# Altium footprint library BSS138.PcbLib: 1 footprints
Each footprint in its own frame and in the unit in brackets; x right, y up, seen from the top. Pads: shape width x height; smd on the part's side, far side on the other; paste and mask are expansions set on the pad; w line width, h text height; cw(c..) or ccw(c..) is an arc to the next point about the centre after c.
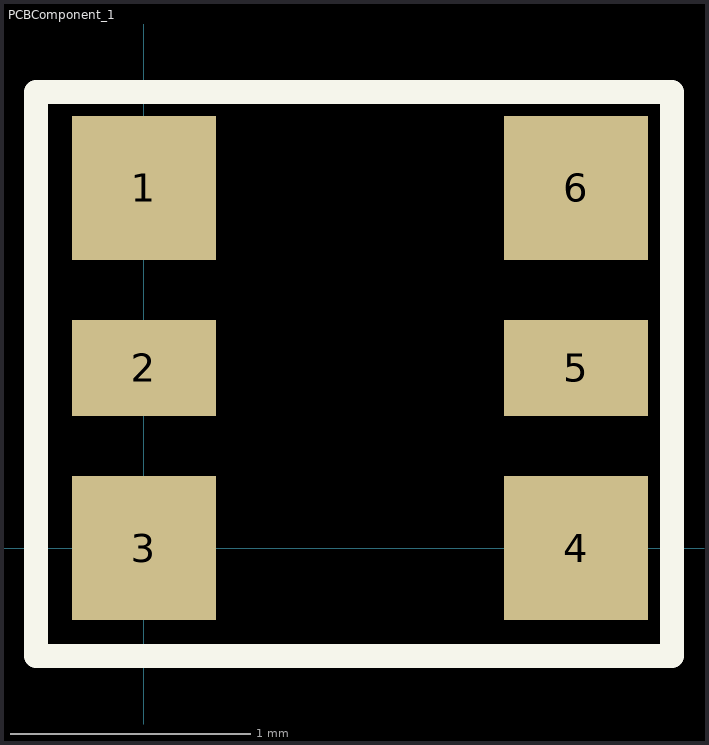
[diagram p0: the footprint, top view; thin cyan lines are the x and y axes]

## PCBComponent_1 [mm]
pads (6):
  rect 0.6x0.6 smd: 1(0,1.5) 3(0,0) 4(1.8,0) 6(1.8,1.5)
  rect 0.6x0.4 smd: 2(0,0.75) 5(1.8,0.75)
Top Overlay:
  lines w0.1: -0.45,-0.45 -0.45,1.9 2.2,1.9 2.2,-0.45 -0.45,-0.45